# EAGLE library part XP4501 (library Panasonic)
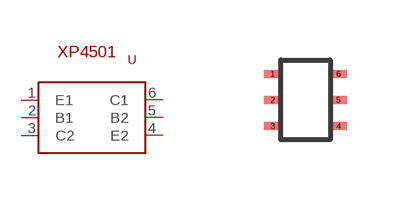
[diagram p0: symbol with the pads of SC-88B; footprint SC-88B]

Designator prefix -

## XP4501  [SC-88B]
1  E1
2  B1
3  C2
4  E2
5  B2
6  C1

## Footprint SC-88B (pad centres in mm)
smd 0.425 x 0.2: 1 -0.823,0.653; 2 -0.823,0; 3 -0.823,-0.653; 4 0.823,-0.653; 5 0.823,0; 6 0.823,0.653